# Altium integrated library lattice.IntLib: 34 symbols (part 3 of 3)
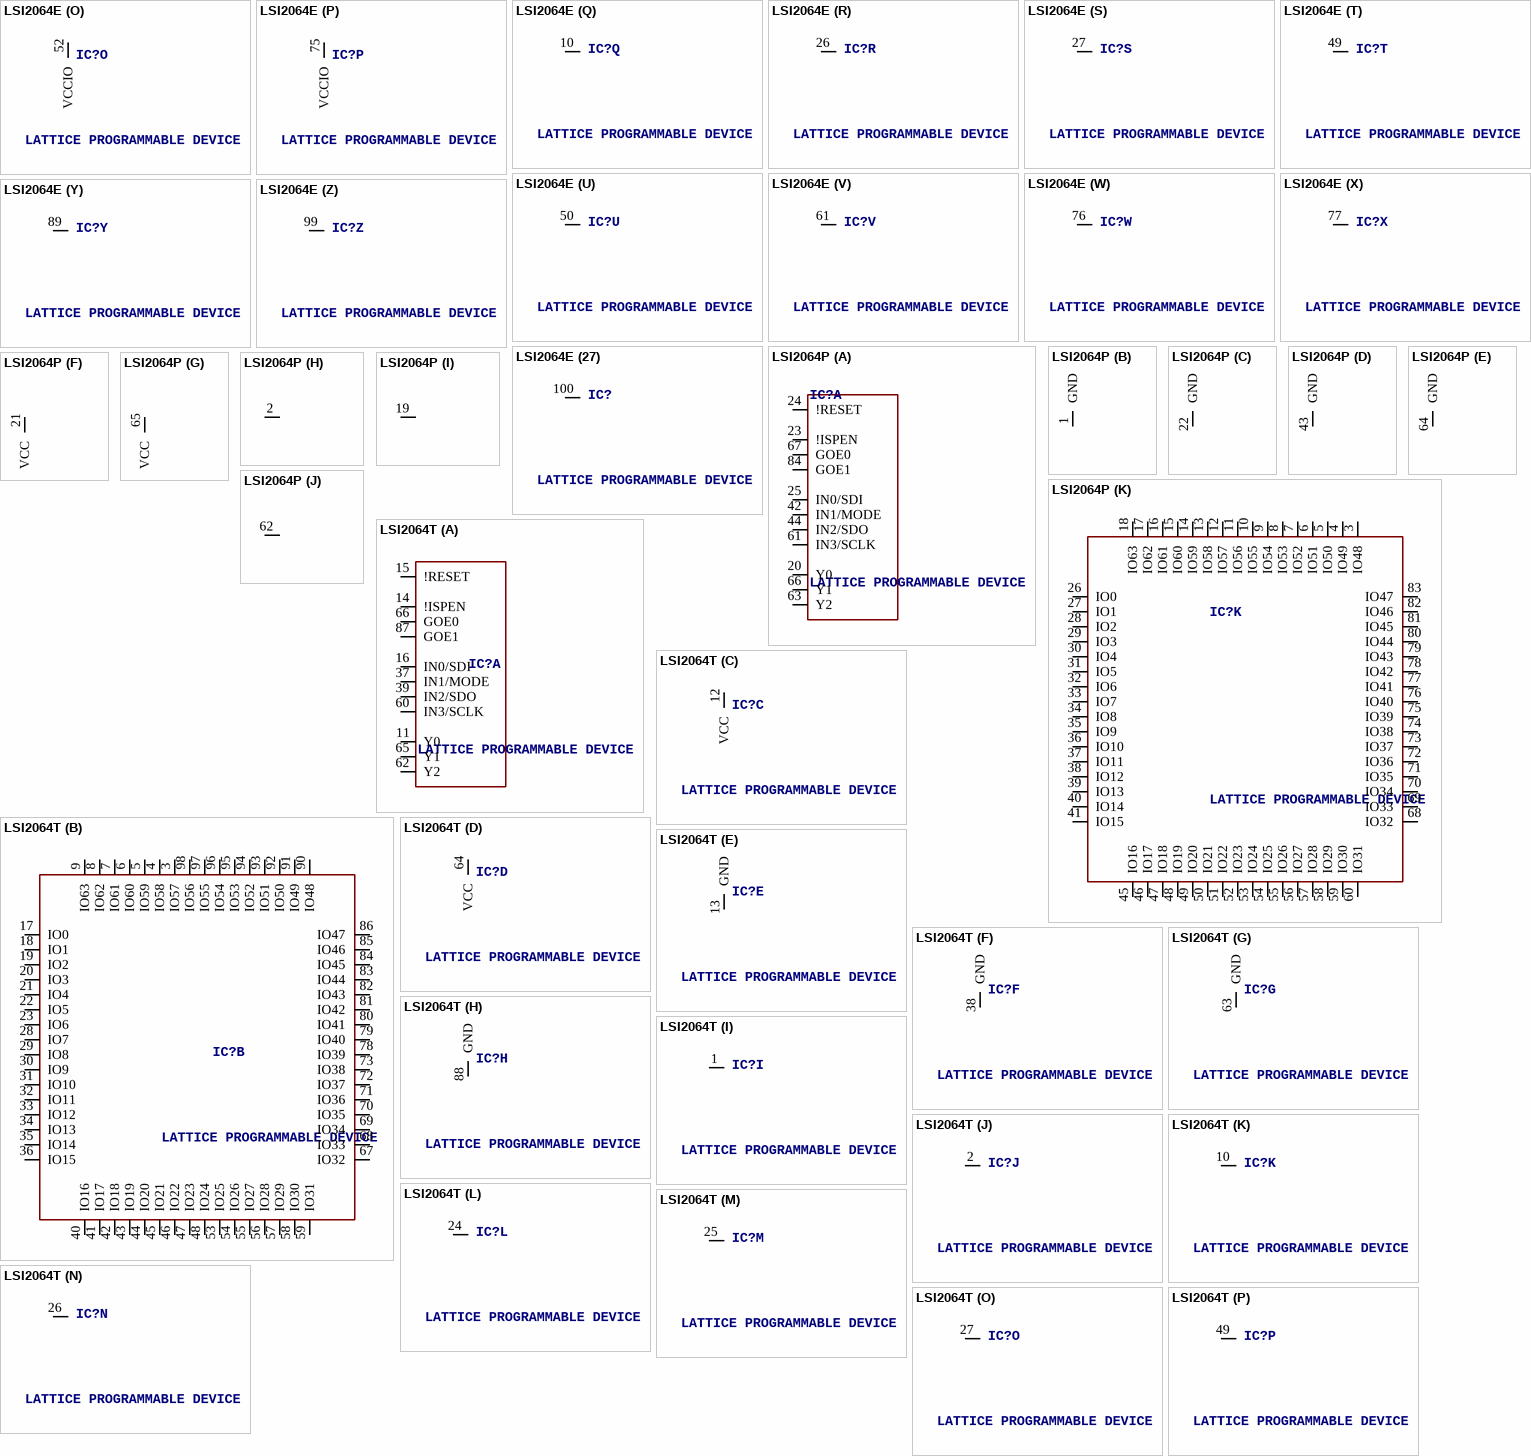
[diagram p24: symbols LSI2064E to LSI2064T]

## LSI2064P
designator IC?, comment LATTICE PROGRAMMABLE DEVICE
MPN: ISPLSI2064A-100LJN84; OC_FARNELL: 1571929; OC_NEWARK: 97M0537
footprint PLCC84
part A pins: 20 Y0, 23 !ISPEN, 24 !RESET, 25 IN0/SDI, 42 IN1/MODE, 44 IN2/SDO, 61 IN3/SCLK, 63 Y2, 66 Y1, 67 GOE0, 84 GOE1
part B pins: 1 GND (power)
part C pins: 22 GND (power)
part D pins: 43 GND (power)
part E pins: 64 GND (power)
part F pins: 21 VCC (power)
part G pins: 65 VCC (power)
part H pins: 2 NC
part I pins: 19 NC
part J pins: 62 NC
part K pins: 3 IO48, 4 IO49, 5 IO50, 6 IO51, 7 IO52, 8 IO53, 9 IO54, 10 IO55, 11 IO56, 12 IO57, 13 IO58, 14 IO59, 15 IO60, 16 IO61, 17 IO62, 18 IO63, 26 IO0, 27 IO1, 28 IO2, 29 IO3, 30 IO4, 31 IO5, 32 IO6, 33 IO7, 34 IO8, 35 IO9, 36 IO10, 37 IO11, 38 IO12, 39 IO13, 40 IO14, 41 IO15, 45 IO16, 46 IO17, 47 IO18, 48 IO19, 49 IO20, 50 IO21, 51 IO22, 52 IO23, 53 IO24, 54 IO25, 55 IO26, 56 IO27, 57 IO28, 58 IO29, 59 IO30, 60 IO31, 68 IO32, 69 IO33, 70 IO34, 71 IO35, 72 IO36, 73 IO37, 74 IO38, 75 IO39, 76 IO40, 77 IO41, 78 IO42, 79 IO43, 80 IO44, 81 IO45, 82 IO46, 83 IO47

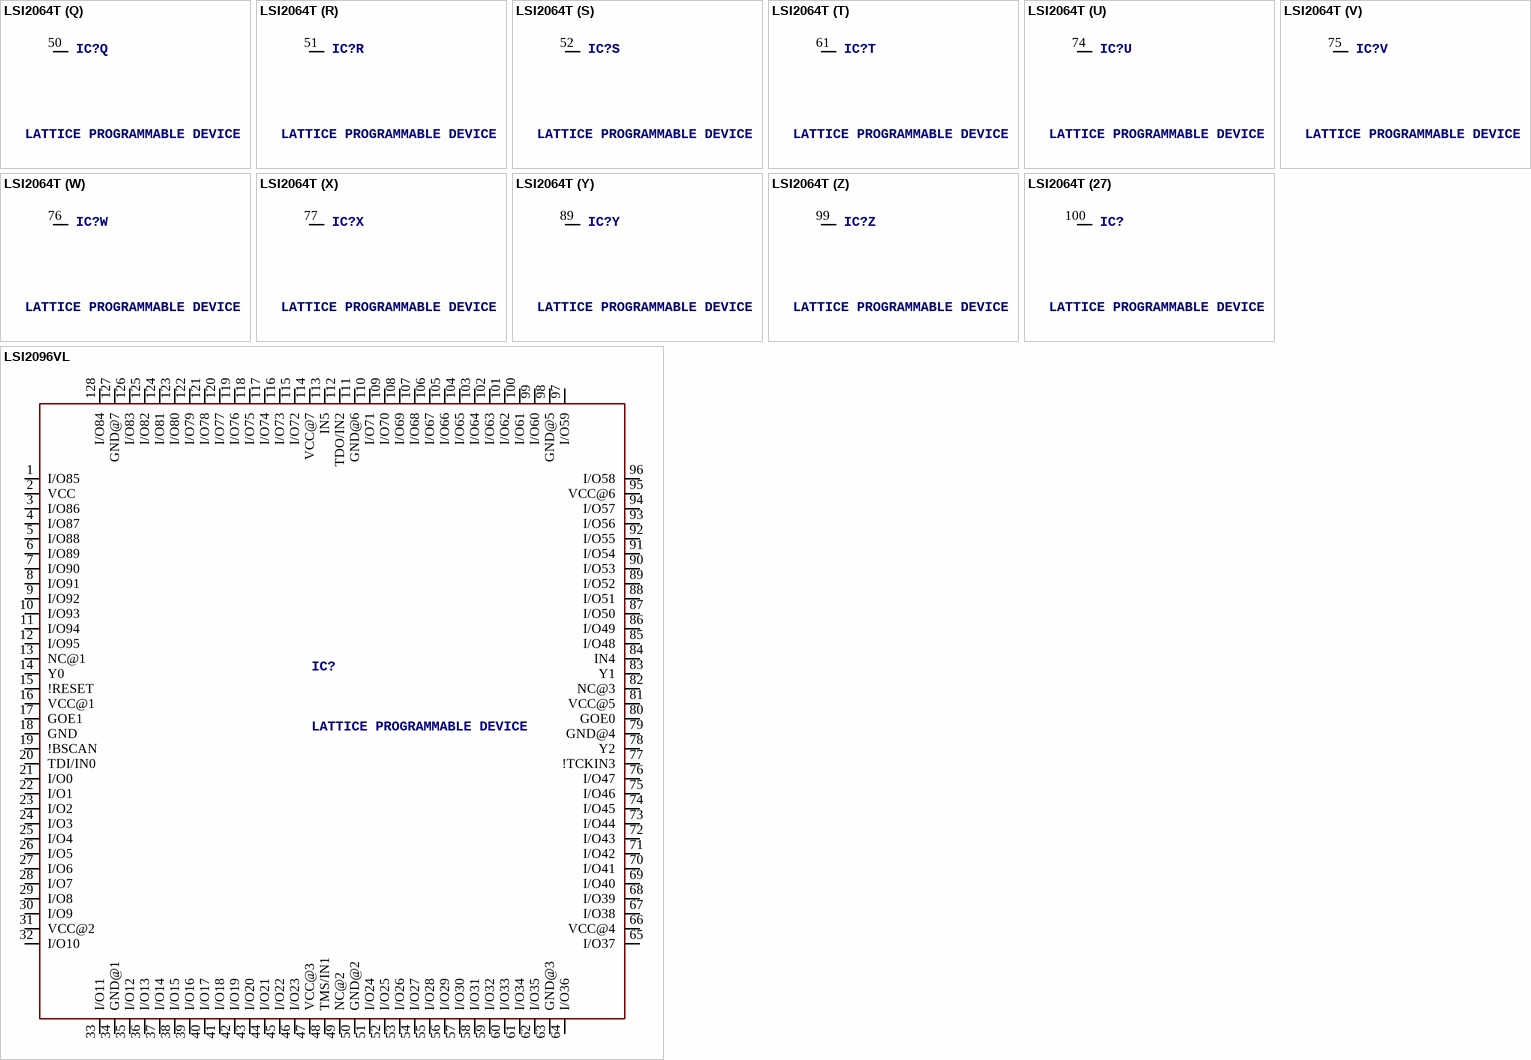
[diagram p22: symbols LSI2064T to LSI2096VL]

## LSI2064T
designator IC?, comment LATTICE PROGRAMMABLE DEVICE
OC_FARNELL: unknown; OC_NEWARK: unknown
footprint TQFP100
part A pins: 11 Y0, 14 !ISPEN, 15 !RESET, 16 IN0/SDI, 37 IN1/MODE, 39 IN2/SDO, 60 IN3/SCLK, 62 Y2, 65 Y1, 66 GOE0, 87 GOE1
part B pins: 3 IO57, 4 IO58, 5 IO59, 6 IO60, 7 IO61, 8 IO62, 9 IO63, 17 IO0, 18 IO1, 19 IO2, 20 IO3, 21 IO4, 22 IO5, 23 IO6, 28 IO7, 29 IO8, 30 IO9, 31 IO10, 32 IO11, 33 IO12, 34 IO13, 35 IO14, 36 IO15, 40 IO16, 41 IO17, 42 IO18, 43 IO19, 44 IO20, 45 IO21, 46 IO22, 47 IO23, 48 IO24, 53 IO25, 54 IO26, 55 IO27, 56 IO28, 57 IO29, 58 IO30, 59 IO31, 67 IO32, 68 IO33, 69 IO34, 70 IO35, 71 IO36, 72 IO37, 73 IO38, 78 IO39, 79 IO40, 80 IO41, 81 IO42, 82 IO43, 83 IO44, 84 IO45, 85 IO46, 86 IO47, 90 IO48, 91 IO49, 92 IO50, 93 IO51, 94 IO52, 95 IO53, 96 IO54, 97 IO55, 98 IO56
part C pins: 12 VCC (power)
part D pins: 64 VCC (power)
part E pins: 13 GND (power)
part F pins: 38 GND (power)
part G pins: 63 GND (power)
part H pins: 88 GND (power)
part I pins: 1 NC
part J pins: 2 NC
part K pins: 10 NC
part L pins: 24 NC
part M pins: 25 NC
part N pins: 26 NC
part O pins: 27 NC
part P pins: 49 NC
part Q pins: 50 NC
part R pins: 51 NC
part S pins: 52 NC
part T pins: 61 NC
part U pins: 74 NC
part V pins: 75 NC
part W pins: 76 NC
part X pins: 77 NC
part Y pins: 89 NC
part Z pins: 99 NC
part 27 pins: 100 NC

## LSI2096VL
designator IC?, comment LATTICE PROGRAMMABLE DEVICE
OC_FARNELL: unknown; OC_NEWARK: unknown
footprint TQFP128
pins: 1 I/O85, 2 VCC (power), 3 I/O86, 4 I/O87, 5 I/O88, 6 I/O89, 7 I/O90, 8 I/O91, 9 I/O92, 10 I/O93, 11 I/O94, 12 I/O95, 13 NC@1, 14 Y0, 15 !RESET, 16 VCC@1 (power), 17 GOE1, 18 GND (power), 19 !BSCAN, 20 TDI/IN0, 21 I/O0, 22 I/O1, 23 I/O2, 24 I/O3, 25 I/O4, 26 I/O5, 27 I/O6, 28 I/O7, 29 I/O8, 30 I/O9, 31 VCC@2 (power), 32 I/O10, 33 I/O11, 34 GND@1 (power), 35 I/O12, 36 I/O13, 37 I/O14, 38 I/O15, 39 I/O16, 40 I/O17, 41 I/O18, 42 I/O19, 43 I/O20, 44 I/O21, 45 I/O22, 46 I/O23, 47 VCC@3 (power), 48 TMS/IN1, 49 NC@2, 50 GND@2 (power), 51 I/O24, 52 I/O25, 53 I/O26, 54 I/O27, 55 I/O28, 56 I/O29, 57 I/O30, 58 I/O31, 59 I/O32, 60 I/O33, 61 I/O34, 62 I/O35, 63 GND@3 (power), 64 I/O36, 65 I/O37, 66 VCC@4 (power), 67 I/O38, 68 I/O39, 69 I/O40, 70 I/O41, 71 I/O42, 72 I/O43, 73 I/O44, 74 I/O45, 75 I/O46, 76 I/O47, 77 !TCKIN3, 78 Y2, 79 GND@4 (power), 80 GOE0, 81 VCC@5 (power), 82 NC@3, 83 Y1, 84 IN4, 85 I/O48, 86 I/O49, 87 I/O50, 88 I/O51, 89 I/O52, 90 I/O53, 91 I/O54, 92 I/O55, 93 I/O56, 94 I/O57, 95 VCC@6 (power), 96 I/O58, 97 I/O59, 98 GND@5 (power), 99 I/O60, 100 I/O61, 101 I/O62, 102 I/O63, 103 I/O64, 104 I/O65, 105 I/O66, 106 I/O67, 107 I/O68, 108 I/O69, 109 I/O70, 110 I/O71, 111 GND@6 (power), 112 TDO/IN2, 113 IN5, 114 VCC@7 (power), 115 I/O72, 116 I/O73, 117 I/O74, 118 I/O75, 119 I/O76, 120 I/O77, 121 I/O78, 122 I/O79, 123 I/O80, 124 I/O81, 125 I/O82, 126 I/O83, 127 GND@7 (power), 128 I/O84